# EAGLE library part NRX1-V (library trackuino)
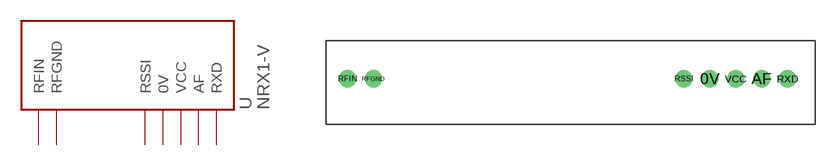
[diagram p5: symbol with the pads of NRX1-V; footprint NRX1-V]

Designator prefix -

## NRX1-V  [NRX1-V]
0V  0V
AF  AF
RFGND  RFGND
RFIN  RFIN
RSSI  RSSI
RXD  RXD
VCC  VCC

## Footprint NRX1-V (pad centres in mm)
drill 0.8 pad 1.676: 0V 35.56,0; AF 40.64,0; RFGND 2.54,0; RFIN 0,0; RSSI 33.02,0; RXD 43.18,0; VCC 38.1,0